# Altium integrated library ExportLIBCompile.IntLib: 4 symbols
Pins are listed as number, name and electrical type; pins without a type are passive.

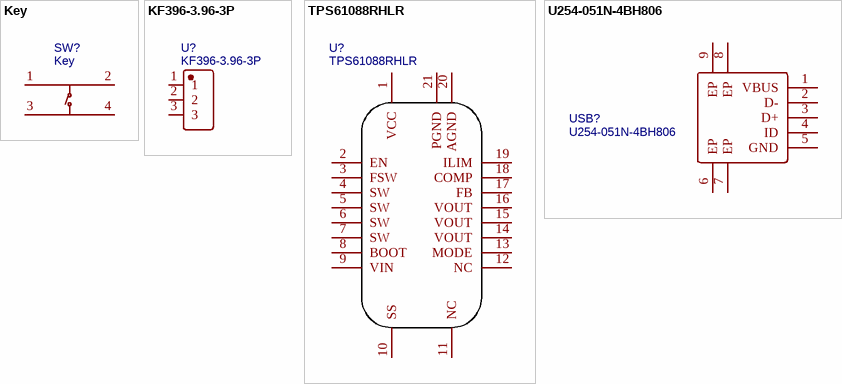
[diagram p0: symbols Key to U254-051N-4BH806]

## Key
designator SW?
BOM_Manufacturer: SHOU HAN; BOM_Manufacturer Part: TS665CJ; Contributor: LCSC; BOM_Supplier: LCSC; BOM_Supplier Part: C393938; spicePre: S; spiceSymbolName: TS665CJ
footprint SW-TH_4P-L6.0-W6.0-P4.50-LS6.5
pins: 1 A, 2 B, 3 C, 4 D

## KF396-3.96-3P
designator U?
BOM_Manufacturer: Cixi Kefa Elec; Contributor: LCSC; BOM_Supplier: LCSC; BOM_Supplier Part: C474895; BOM_Manufacturer Part: KF396-3.96-3P; spicePre: U; spiceSymbolName: KF396-3.96-3P
footprint CONN-TH_3P-P3.96_KF396-3.96-3P
pins: 1, 2, 3

## TPS61088RHLR
designator U?
BOM_Manufacturer: TI; SMT Type: Extend; BOM_Supplier: LCSC; BOM_Manufacturer Part: TPS61088RHLR; BOM_Supplier Part: C87357; BOM_LCSC Assembly: Yes; spicePre: U; spiceSymbolName: TPS61088RHLR
footprint VQFN-20_L4.6-W3.6-P0.50-BL
pins: 1 VCC, 2 EN, 3 FSW, 4 SW, 5 SW, 6 SW, 7 SW, 8 BOOT, 9 VIN, 10 SS, 11 NC, 12 NC, 13 MODE, 14 VOUT, 15 VOUT, 16 VOUT, 17 FB, 18 COMP, 19 ILIM, 20 AGND, 21 PGND

## U254-051N-4BH806
designator USB?
microUSB; BOM_Manufacturer: XKB Enterprise; Contributor: LCSC; BOM_Supplier: LCSC; BOM_Supplier Part: C319170; BOM_Manufacturer Part: U254-051N-4BH806; spicePre: U; spiceSymbolName: U254-051N-4BH806
footprint MICRO-USB-SMD_U254-051N-4BH806
pins: 1 VBUS, 2 D-, 3 D+, 4 ID, 5 GND, 6 EP, 7 EP, 8 EP, 9 EP